# Altium footprint library WS-PBSU.PcbLib: 1 footprints
Each footprint in its own frame and in the unit in brackets; x right, y up, seen from the top. Pads: shape width x height; smd on the part's side, far side on the other; paste and mask are expansions set on the pad; w line width, h text height; cw(c..) or ccw(c..) is an arc to the next point about the centre after c.
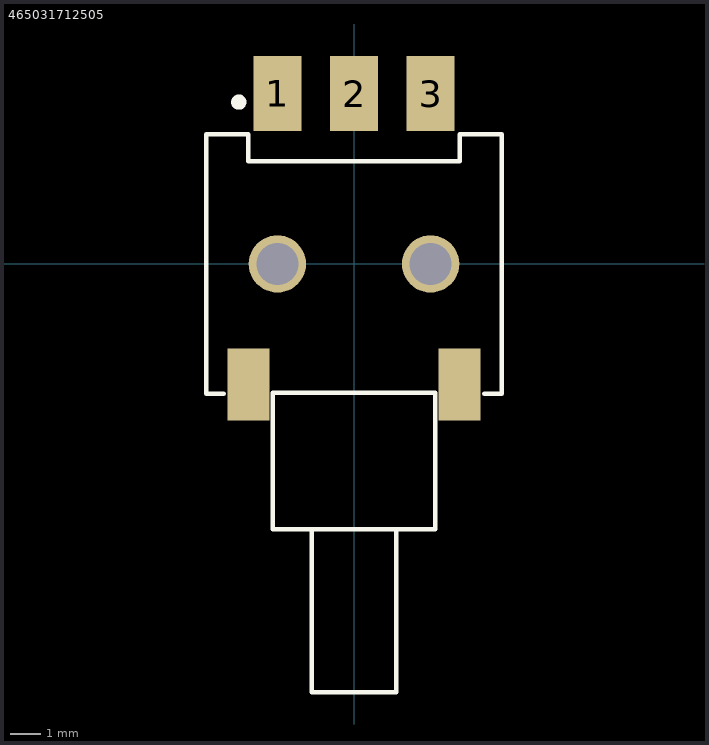
[diagram p0: the footprint, top view; thin cyan lines are the x and y axes]

## 465031712505 [mm] "9.8x18.5mm left angle type, SMT, diameter of actuator: 2.8mm, SPDT, with bracket design, T/R"
height 5.9
pads (7):
  rect 1.6x2.5 smd: 1(-2.54,5.65) 2(0,5.65) 3(2.54,5.65)
  rect 1.4x2.4 smd: ""(-3.5,-4) ""(3.5,-4)
  round 1.9 hole 1.4: ""(-2.54,0) ""(2.54,0)
Top Overlay:
  circle w0.3: c-3.82,5.365 r0.103
  lines w0.152: -4.325,-4.3 -4.9,-4.3 -4.9,4.3 -3.5,4.3 -3.5,3.4 3.5,3.4 3.5,4.3 4.9,4.3 4.9,-4.3 4.325,-4.3 ; -1.4,-8.8 -1.4,-14.2 1.4,-14.2 1.4,-8.8 ; -2.7,-8.8 -2.7,-4.275 2.7,-4.275 2.7,-8.8 -2.7,-8.8
3D body: height 5.84, standoff -1.24, extent -4.9,-14.2 4.9,6.4